# Altium footprint library Adeept.PcbLib: 37 footprints (part 1 of 3)
Each footprint in its own frame and in the unit in brackets; x right, y up, seen from the top. Pads: shape width x height; smd on the part's side, far side on the other; paste and mask are expansions set on the pad; w line width, h text height; cw(c..) or ccw(c..) is an arc to the next point about the centre after c.
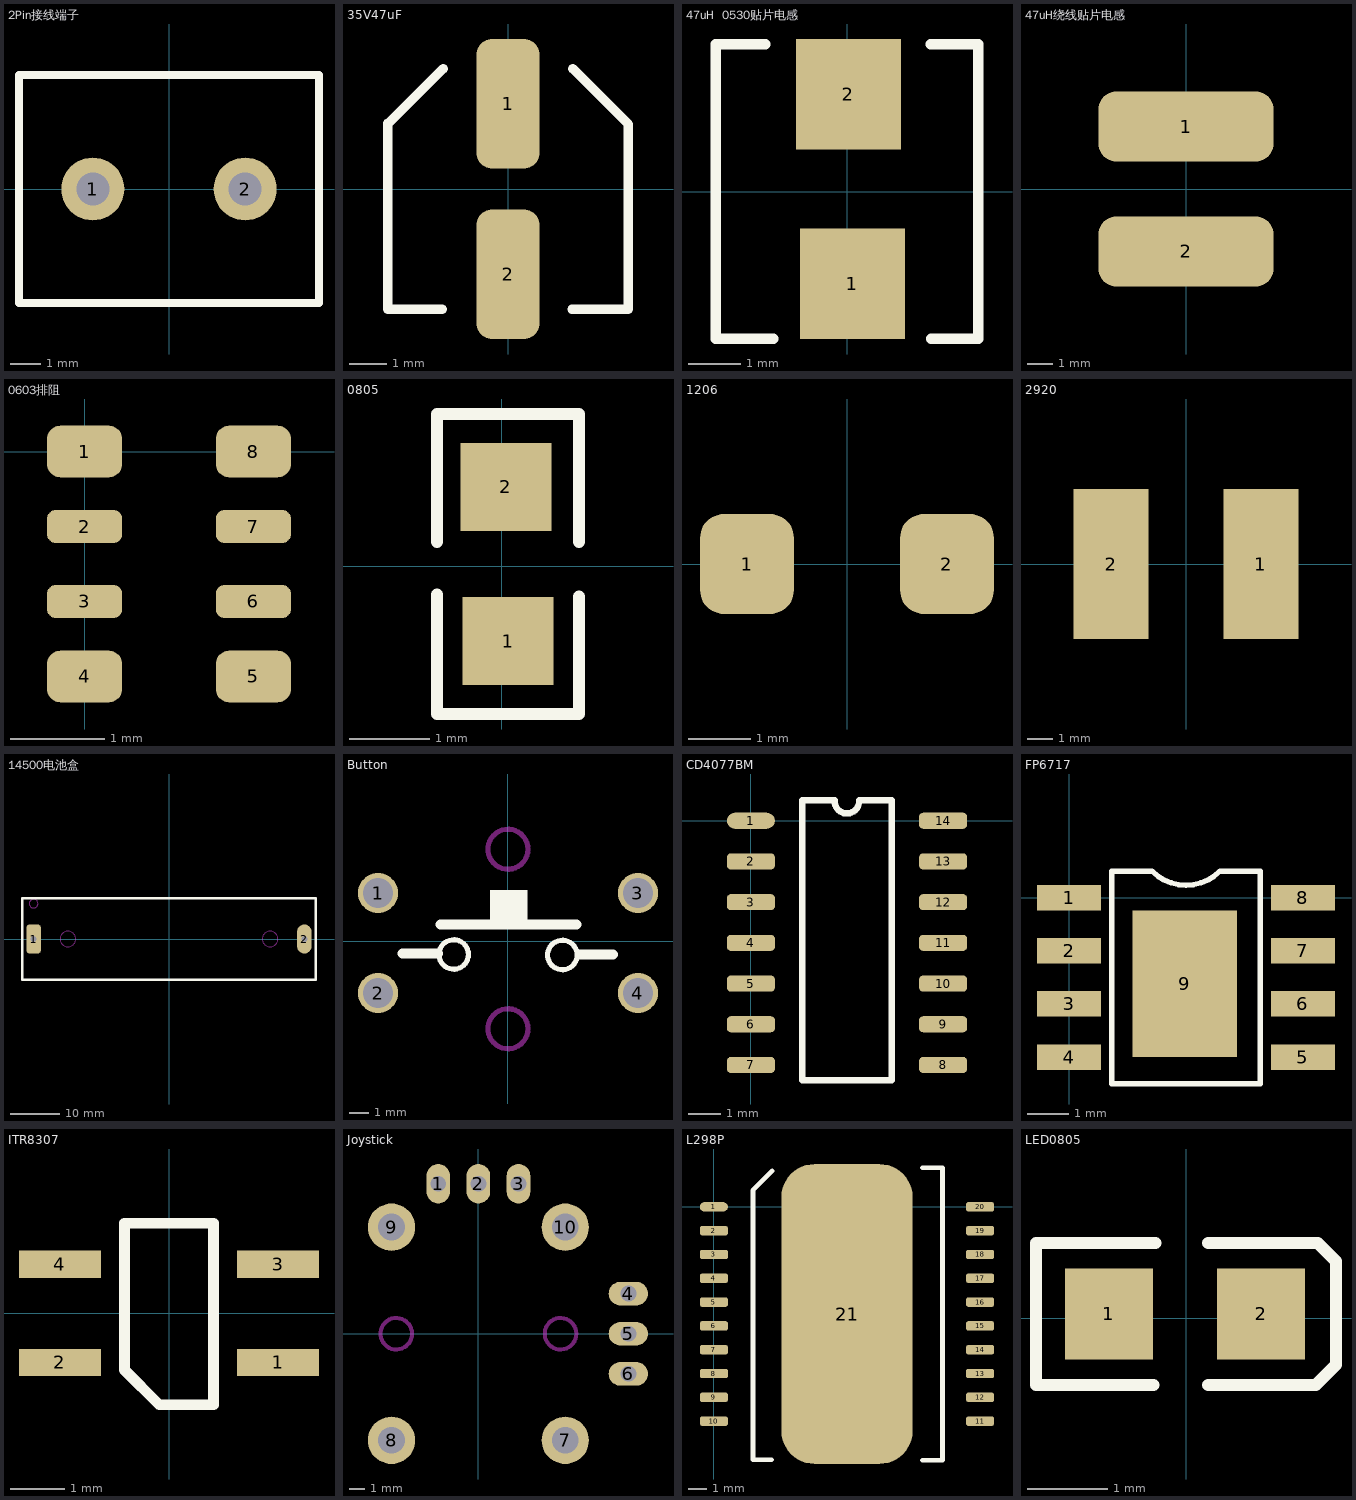
[diagram p0: the footprints below, top view; thin cyan lines are the x and y axes]

## 2Pin接线端子 [mm]
pads (2):
  round 2.1 hole 1.1: 1(-2.54,0) 2(2.54,0)
Top Overlay:
  lines w0.254: -5,-3.8 5,-3.8 5,3.8 -5,3.8 -5,-3.8

## 35V47uF [mm]
pads (2):
  rrect50% 1.7x3.5 smd: 1(0,2.3) 2(0,-2.3)
Top Overlay:
  lines w0.254: -3.25,1.778 -3.25,-3.25 -1.779,-3.25 ; -3.222,1.778 -1.75,3.25 ; 1.728,-3.25 3.25,-3.25 3.25,1.753 ; 1.75,3.25 3.247,1.753

## 47uH  0530贴片电感 [mm]
pads (2):
  rect 2x2.1 smd: 1(0.102,-1.753) 2(0.025,1.854)
Top Overlay:
  lines w0.2: -1.555,2.8 -2.5,2.8 -2.5,-2.8 -1.403,-2.8 ; 1.594,2.8 2.5,2.8 2.5,-2.8 1.606,-2.8

## 47uH绕线贴片电感 [mm]
pads (2):
  rrect50% 7x2.8 smd: 1(0,2.5) 2(0,-2.5)

## 0603排阻 [mm]
pads (8):
  rrect50% 0.8x0.55 smd: 1(0,0) 4(0,-2.4) 5(1.8,-2.4) 8(1.8,0)
  rrect50% 0.8x0.35 smd: 2(0,-0.8) 3(0,-1.6) 6(1.8,-1.6) 7(1.8,-0.8)

## 0805 [mm]
pads (2):
  rect 1.14x1.1 smd: 1(0.076,-0.94) 2(0.051,0.991)
Top Overlay:
  lines w0.154: -0.813,-0.356 -0.813,-1.854 0.965,-1.854 0.965,-0.381 ; -0.813,0.305 -0.813,1.905 0.965,1.905 0.965,0.305

## 1206 [mm]
pads (2):
  rrect50% 1.5x1.6 smd: 1(-1.6,0) 2(1.6,0)

## 2920 [mm]
pads (2):
  rect 3x6 smd: 1(3,0) 2(-3,0)

## 14500电池盒 [mm]
pads (2):
  rrect50% 3x6 hole 1.2: 1(-27.7,0)
  oval 3x6 hole 1.2: 2(27.7,0)
Top Overlay:
  lines w0.5: -30,-8.3 30,-8.3 30,8.3 -30,8.3 -30,-8.3
Keep-Out Layer:
  circle w0.1: c-27.7,7.25 r0.9
  circle w0.1: c-20.7,0 r1.6
  circle w0.1: c20.7,0 r1.6
3D body "dianchihe-5-chazhen.stp": height 15.1, standoff -3.6, extent -30.356,-8.188 29.644,8.352

## Button [mm]
height 1.1
pads (4):
  round 2 hole 1.5: 1(-6.477,2.413) 2(-6.477,-2.587) 3(6.523,2.413) 4(6.523,-2.587)
Top Overlay:
  circle w0.254: c-2.692,-0.66 r0.738
  circle w0.254: c2.743,-0.686 r0.738
  rectangle: -0.889,0.889 0.991,2.565
  lines w0.5: -5.258,-0.61 -3.48,-0.61 ; -3.353,0.838 3.454,0.838 ; 3.609,-0.66 5.283,-0.66
Keep-Out Layer:
  circle w0.254: c0.023,4.603 r1
  circle w0.254: c0.023,-4.374 r1

## CD4077BM [mm]
pads (14):
  oval 1.5x0.5 smd: 1(0,0)
  rrect50% 1.5x0.5 smd: 2(0,-1.27) 3(0,-2.54) 4(0,-3.81) 5(0,-5.08) 6(0,-6.35) 7(0,-7.62) 8(6,-7.62) 9(6,-6.35) 10(6,-5.08) 11(6,-3.81) 12(6,-2.54) 13(6,-1.27) 14(6,0)
Top Overlay:
  lines w0.2: 2.616,0.61 ccw(c2.997,0.61) 3.378,0.61 ; 2.616,0.635 1.6,0.635 1.6,-8.103 4.394,-8.103 4.394,0.635 3.378,0.635

## FP6717 [mil]
pads (9):
  rect 60x24 smd: 1(0,0) 2(0,-50) 3(0,-100) 4(0,-150) 5(220,-150) 6(220,-100) 7(220,-50) 8(220,0)
  rect 98.43x137.8 smd: 9(109,-81)
Top Overlay:
  lines w5: 40,-175 180,-175 180,25 142,25 cw(c110,57) 78,25 40,25 40,-175

## ITR8307 [mm]
pads (4):
  rect 1.5x0.5 smd: 1(2,-0.9) 2(-2,-0.9) 3(2,0.9) 4(-2,0.9)
Top Overlay:
  lines w0.2: -0.813,-1.041 -0.178,-1.676 0.813,-1.676 0.813,1.651 -0.813,1.651 -0.813,-1.041
3D body "xunjitiepian1.stp": height 1.2, standoff 0, extent -2.601,-1.624 2.499,1.726

## Joystick [mm]
pads (10):
  oval 1.5x2.5 hole 1: 1(-2.54,9.5) 2(0,9.5) 3(2.54,9.5)
  oval 2.5x1.5 hole 1: 4(9.5,2.54) 5(9.5,0) 6(9.5,-2.54)
  round 3 hole 1.7: 7(5.5,-6.75) 8(-5.5,-6.75) 9(-5.5,6.75) 10(5.5,6.75)
Keep-Out Layer:
  circle w0.254: c5.2,0 r1
  circle w0.254: c-5.2,0 r1

## L298P [mm]
pads (21):
  oval 1.5x0.5 smd: 1(0,0)
  rrect50% 1.5x0.5 smd: 2(0,-1.27) 3(0,-2.54) 4(0,-3.81) 5(0,-5.08) 6(0,-6.35) 7(0,-7.62) 8(0,-8.89) 9(0,-10.16) 10(0,-11.43) 11(14.2,-11.43) 12(14.2,-10.16) 13(14.2,-8.89) 14(14.2,-7.62) 15(14.2,-6.35) 16(14.2,-5.08) 17(14.2,-3.81) 18(14.2,-2.54) 19(14.2,-1.27) 20(14.2,0)
  rrect50% 7x16 smd: 21(7.1,-5.715)
Top Overlay:
  lines w0.254: 3.073,-13.487 2.085,-13.487 2.085,0.891 3.111,1.918 ; 11.125,-13.513 12.192,-13.513 12.192,2.083 11.125,2.083

## LED0805 [mm]
height 1.1
pads (2):
  rect 1.1x1.14 smd: 1(-0.965,0.051) 2(0.94,0.051)
Top Overlay:
  lines w0.154: -0.406,-0.838 -1.88,-0.838 -1.88,0.94 -0.381,0.94 ; 0.279,-0.838 1.626,-0.838 1.88,-0.584 1.88,0.711 1.651,0.94 0.279,0.94